# EAGLE library part 52746-1671 (library 52746-1671)
Easy-On FFC/FPC Connector, 0.50mm Pitch, Slider Series, Right-Angle, Bottom Contact, 2.00mm Height, Circuits, Gold Plating Source: Datasheet <https://www.molex.com/pdm_docs/sd/527460671_sd.pdf>
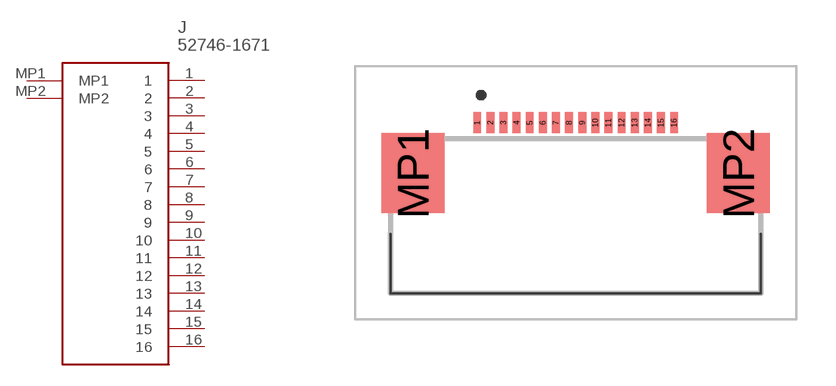
[diagram p0: symbol with the pads of 527461671; footprint 527461671]

Designator prefix J

## 52746-1671 (Description: Easy-On FFC/FPC Connector, 0.50mm Pitch, Slider Series, Right-Angle, Bottom Contact, 2.00mm Height, Circuits, Gold Plating; Height: 2.2mm; Manufacturer_Name: Molex; Manufacturer_Part_Number: 52746-1671; Mouser_Part_Number: 538-52746-1671; Mouser_Price-Stock: https://www.mouser.co.uk/ProductDetail/Molex/52746-1671?qs=nDwhpid8gJYEmQ9M1KrTnw%3D%3D)  [527461671]
1  1
2  2
3  3
4  4
5  5
6  6
7  7
8  8
9  9
10  10
11  11
12  12
13  13
14  14
15  15
16  16
MP1  MP1
MP2  MP2

## Footprint 527461671 (pad centres in mm)
52746-1671-2
smd 0.3 x 0.8: 1 -3.75,3.25; 2 -3.25,3.25; 3 -2.75,3.25; 4 -2.25,3.25; 5 -1.75,3.25; 6 -1.25,3.25; 7 -0.75,3.25; 8 -0.25,3.25; 9 0.25,3.25; 10 0.75,3.25; 11 1.25,3.25; 12 1.75,3.25; 13 2.25,3.25; 14 2.75,3.25; 15 3.25,3.25; 16 3.75,3.25
smd 2.4 x 3.05: MP1 -6.2,1.325; MP2 6.2,1.325